# Altium footprint library GenericPCB.PcbLib: 13 footprints
Each footprint in its own frame and in the unit in brackets; x right, y up, seen from the top. Pads: shape width x height; smd on the part's side, far side on the other; paste and mask are expansions set on the pad; w line width, h text height; cw(c..) or ccw(c..) is an arc to the next point about the centre after c.
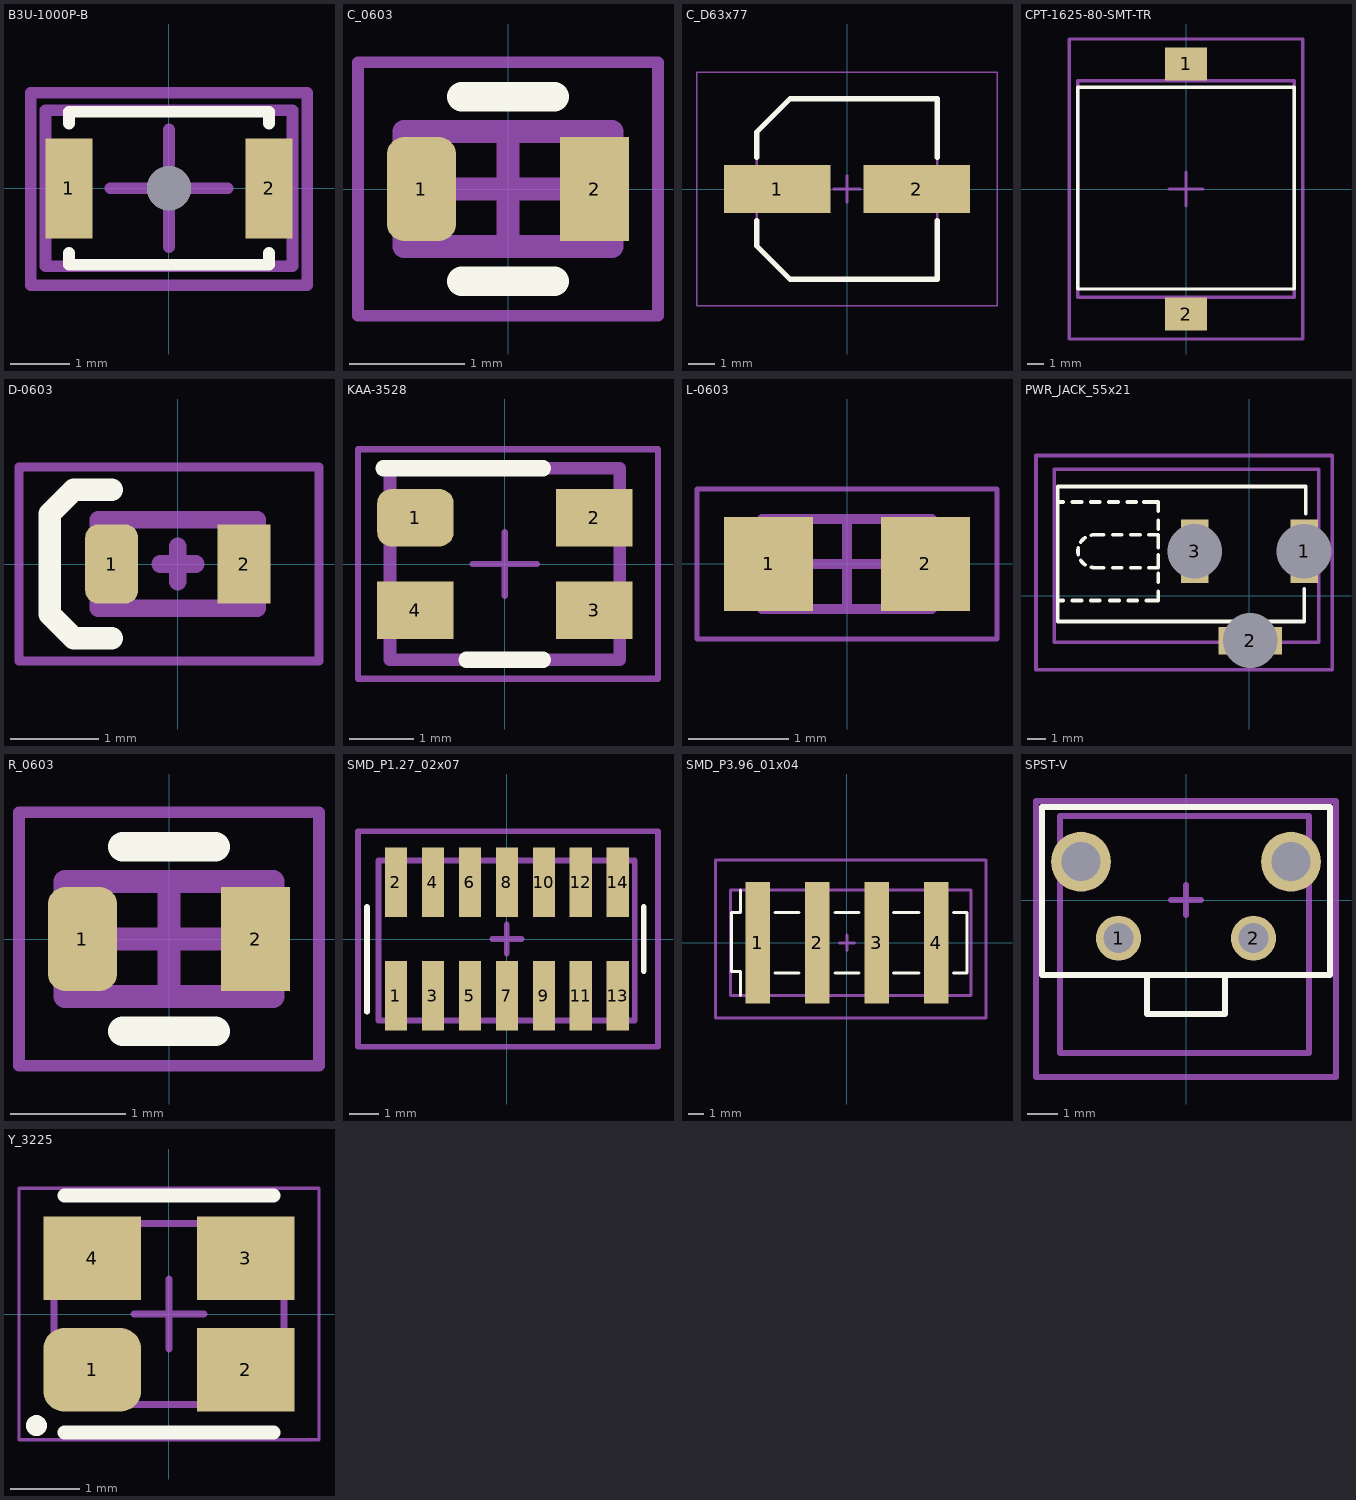
[diagram p0: the footprints below, top view; thin cyan lines are the x and y axes]

## B3U-1000P-B [mm] "tactile Switch"
pads (3):
  rect 0.8x1.7 smd: 1(-1.7,0) 2(1.7,0)
  round 0.75 hole 0.75: ""(0,0)
Top Overlay:
  lines w0.2: -1.7,-1.1 -1.7,-1.3 1.7,-1.3 1.7,-1.1 ; -1.7,1.1 -1.7,1.3 1.7,1.3 1.7,1.1
Mechanical 13:
  lines w0.2: -2.1,-1.325 2.1,-1.325 2.1,1.325 -2.1,1.325 -2.1,-1.325
Mechanical 15:
  lines w0.2: 0,-1 0,1 0,0 ; 0,0 -1,0 1,0 0,0 ; 2.35,1.625 -2.35,1.625 -2.35,-1.65 2.35,-1.65 2.35,1.625 ; 2.35,1.625 2.35,1.625
3D body "B3U1000P.step": height 1.6, standoff 0, extent -2,-1.25 2,1.25

## C_0603 [mm] "0603 package for CAP"
pads (2):
  rrect50% 0.6x0.9 smd: 1(-0.75,0)
  rect 0.6x0.9 smd: 2(0.75,0)
Top Overlay:
  lines w0.254: -0.4,-0.8 0.4,-0.8 ; -0.4,0.8 0.4,0.8
Mechanical 15:
  lines w0.1: -1.3,-1.1 1.3,-1.1 1.3,1.1 -1.3,1.1 -1.3,0.05 -1.3,-0.05 -1.3,-1.1
  lines w0.2: 0,-0.5 0,0.5 0,0 ; 0,0 -0.5,0 0.5,0 0,0
Mechanical 13 (Mech13):
  lines w0.2: -0.9,-0.5 0.9,-0.5 0.9,0.5 -0.9,0.5 -0.9,-0.5
3D body "C_0603.step": height 0.5, standoff 0, extent -0.8,-0.4 0.8,0.4

## C_D63x77 [mm] "Pol cap Dia 6.3mm height 7.7mm"
height 7.7
pads (2):
  rect 4x1.8 smd: 1(-2.625,0) 2(2.625,0)
Top Overlay:
  lines w0.2: -3.4,-1.2 -3.4,-2.15 -2.15,-3.4 3.4,-3.4 3.4,-1.2 ; -3.4,1.2 -3.4,2.15 -2.15,3.4 3.4,3.4 3.4,1.2
Mechanical 13 (Mech13):
  lines w0.1: -3.4,-2.15 -3.4,2.15 -2.15,3.4 3.4,3.4 3.4,-3.4 -2.15,-3.4 -3.4,-2.15
Mechanical 15 (Mech15):
  lines w0.05: -5.65,-4.4 5.65,-4.4 5.65,4.4 -5.65,4.4 -5.65,-4.4
  lines w0.1: -0.5,0 0.5,0 ; 0,-0.5 0,0.5
3D body "C_D63x77.step": height 8, standoff 0, extent -3.875,-3.4 3.875,3.4

## CPT-1625-80-SMT-TR [mm] "Buzzer"
height 2.5
pads (2):
  rect 2.5x2 smd: 1(0,7.5) 2(0,-7.5)
Top Overlay:
  lines w0.2: -6.5,-6 -5,-6 6.5,-6 6.5,6.1 -6.5,6.1 -6.5,-6
Mechanical 13:
  lines w0.2: -6.5,-6.5 -5.5,-6.5 6.5,-6.5 6.5,6.5 -6.5,6.5 -6.5,-6.5
Mechanical 15:
  lines w0.2: 0,-1 0,1 0,0 ; 0,0 1,0 -1,0 0,0 ; -7,-9 -7,9 7,9 7,-9 -7,-9
3D body "CPT-1625-80-SMT-TR.step": height 2.5, standoff 0, extent -6.5,-8.4 6.5,8.4

## D-0603 [mm] "0603 package for LED"
pads (2):
  rrect50% 0.6x0.9 smd: 1(-0.75,0)
  rect 0.6x0.9 smd: 2(0.75,0)
Top Overlay:
  lines w0.254: -1.45,-0.57 -1.18,-0.84 -0.75,-0.84 ; -1.45,-0.54 -1.45,0.54 ; -1.45,0.57 -1.18,0.84 -0.75,0.84
Mechanical 15:
  lines w0.1: -1.8,-1.1 -1.8,1.1 1.6,1.1 1.6,-1.1 -1.8,-1.1
  lines w0.2: -0.2,0 0.2,0 0,0 ; 0,0 0,-0.2 0,0.2 0,0
Mechanical 13 (Mech13):
  lines w0.2: -0.9,-0.5 0.9,-0.5 0.9,0.5 -0.9,0.5 -0.9,-0.5
3D body "LED SMD0603.step": height 0.68, standoff 0, extent -0.825,-0.36 0.825,0.365

## KAA-3528 [mm] "4-Pin LED 35mm x 28mm"
pads (4):
  rrect50% 1.2x0.9 smd: 1(-1.4,0.725)
  rect 1.2x0.9 smd: 2(1.4,0.725) 3(1.4,-0.725) 4(-1.4,-0.725)
Top Overlay:
  lines w0.254: -1.9,1.5 0.6,1.5 ; -0.6,-1.5 0.6,-1.5
Mechanical 13:
  lines w0.2: -1.8,-1.5 -1.8,1.5 1.313,1.5 1.8,1.5 1.8,-1.5 -1.8,-1.5
Mechanical 15:
  lines w0.1: -0.501,0 -0.001,-0.001 ; -0.001,-0.5 0,0 ; 0,0.5 -0.001,0 0.499,-0.001 ; -2.3,-1.8 2.4,-1.8 2.4,1.8 -2.3,1.8 -2.3,-1.8
3D body "KAA-3528.step": height 1.9, standoff 0, extent -1.75,-1.4 1.75,1.4

## L-0603 [mm] "Chip Inductor, 2-Leads, Body 1.60x0.80mm, IPC Medium Density"
height 0.95
pads (2):
  rect 0.89x0.94 smd: 1(-0.785,0) 2(0.785,0)
Mechanical 13 (Mech13):
  lines w0.1: -0.85,-0.45 0.85,-0.45 0.85,0.45 -0.85,0.45 -0.85,-0.45
Mechanical 15 (Mech15):
  lines w0.05: -1.5,-0.75 1.5,-0.75 1.5,0.75 -1.5,0.75 -1.5,-0.75
  lines w0.1: -0.45,0 0.45,0 ; 0,-0.45 0,0.45
3D body "L-0603.step": height 0.95, standoff 0, extent -0.85,-0.45 0.85,0.45

## PWR_JACK_55x21 [mm] "PCB Mount DC Power Jacks"
height 11
pads (3):
  rect 1.5x3.5 hole 3 square: 1(3,2.45) 3(-3,2.45)
  rect 3.5x1.5 hole 3 square: 2(0.05,-2.45)
Top Overlay:
  lines w0.2: -10.5,-0.6 -10.5,4.95 -10.5,6 3.1,6 3.1,4.5 ; -10.5,5.15 -10.2,5.15 ; -10.2,-0.25 -10.5,-0.25 -10.5,-1.4 3,-1.4 3,0.4 ; -9.7,-0.25 -9.2,-0.25 ; -9.7,5.15 -9.2,5.15 ; -9.383,2.274 cw(c-8.5,2.45) -9.383,2.626 ; -9.248,1.95 ccw(c-8.5,2.45) -9,1.702 ; -9.248,2.95 cw(c-8.5,2.45) -9,3.198 ; -8.7,-0.25 -8.2,-0.25 ; -8.7,5.15 -8.2,5.15 ; -8.676,1.567 ccw(c-8.5,2.45) -8.5,1.55 -8,1.55 ; -8.676,3.333 cw(c-8.5,2.45) -8.5,3.35 -8,3.35 ; -7.7,5.15 -7.2,5.15 ; -7.65,-0.25 -7.15,-0.25 ; -7.5,1.55 -7,1.55 ; -7.5,3.35 -7,3.35 ; -6.7,5.15 -6.2,5.15 ; -6.65,-0.25 -6.15,-0.25 ; -6.5,1.55 -6,1.55 ; -6.5,3.35 -6,3.35 ; -5.8,5.15 -5,5.15 -5,4.65 ; -5.65,-0.25 -5,-0.25 -5,0.25 ; -5.5,1.55 -5,1.55 -5,2.25 ; -5.5,3.35 -5,3.35 -5,2.65 ; -5,0.75 -5,1.25 ; -5,3.65 -5,4.15
Mechanical 13:
  lines w0.2: -10.7,-2.55 -10.7,6.95 3.8,6.95 3.8,-2.55 -10.7,-2.55
Mechanical 15:
  lines w0.2: -11.7,-4.05 -11.7,7.7 4.55,7.7 4.55,-4.05 -11.7,-4.05
3D body "PJ-002AH.STEP": height 11.05, standoff -3.45, extent -10.65,-2.45 3.75,6.95

## R_0603 [mm] "0603 package for RES"
pads (2):
  rrect50% 0.6x0.9 smd: 1(-0.75,0)
  rect 0.6x0.9 smd: 2(0.75,0)
Top Overlay:
  lines w0.254: -0.4,-0.8 0.4,-0.8 ; -0.4,0.8 0.4,0.8
Mechanical 13:
  lines w0.2: -0.9,-0.5 -0.9,0.5 0.9,0.5 0.9,-0.5 -0.9,-0.5
Mechanical 15:
  lines w0.1: -1.3,-1.1 1.3,-1.1 1.3,1.1 -1.3,1.1 -1.3,0.05 -1.3,-0.05 -1.3,-1.1
  lines w0.2: 0,-0.5 0,0.5 0,0 ; 0,0 0.5,0 -0.5,0 0,0
3D body "R_0603.step": height 0.45, standoff 0, extent -0.8,-0.4 0.8,0.4

## SMD_P1.27_02x07 [mm]
pads (14):
  rect 0.76x2.4 smd: 1(-3.81,-1.95) 2(-3.81,1.95) 3(-2.54,-1.95) 4(-2.54,1.95) 5(-1.27,-1.95) 6(-1.27,1.95) 7(0,-1.95) 8(0,1.95) 9(1.27,-1.95) 10(1.27,1.95) 11(2.54,-1.95) 12(2.54,1.95) 13(3.81,-1.95) 14(3.81,1.95)
Top Overlay:
  lines w0.2: -4.8,-2.5 -4.8,1.1 ; 4.7,-1.1 4.7,1.1
Mechanical 15:
  lines w0.2: 0,-0.5 0,0.5 0,0 ; 0,0 -0.5,0 0.5,0 0,0
Mechanical 13 (Mech13):
  lines w0.2: -4.41,-2.8 -4.41,2.7 4.39,2.7 4.39,-2.8 -4.41,-2.8
Mechanical 15 (Mech15):
  lines w0.2: -5.11,-3.7 -5.11,3.7 5.19,3.7 5.19,-3.7 -5.11,-3.7
3D body "P127_2pin_Header.step": height 4.5, standoff 0, extent -4.405,-2.75 -3.135,2.75
3D body "P127_2pin_Header.step": height 4.5, standoff 0, extent -3.155,-2.75 -1.885,2.75
3D body "P127_2pin_Header.step": height 4.5, standoff 0, extent -1.905,-2.75 -0.635,2.75
3D body "P127_2pin_Header.step": height 4.5, standoff 0, extent -0.655,-2.75 0.615,2.75
3D body "P127_2pin_Header.step": height 4.5, standoff 0, extent 0.615,-2.75 1.885,2.75
3D body "P127_2pin_Header.step": height 4.5, standoff 0, extent 1.865,-2.75 3.135,2.75
3D body "P127_2pin_Header.step": height 4.5, standoff 0, extent 3.115,-2.75 4.385,2.75

## SMD_P3.96_01x04 [mm]
pads (4):
  rect 1.64x8.11 smd: 1(-5.94,0) 2(-1.98,0) 3(1.98,0) 4(5.94,0)
Top Overlay:
  lines w0.2: -7.1,-3.5 -7.1,-1.9 -7.7,-1.9 -7.7,2 -7.1,2 -7.1,3.5 ; -4.8,-2 -3.2,-2 ; -4.8,2 -3.2,2 ; -0.8,-2 0.8,-2 ; -0.8,2 0.8,2 ; 3.1,-2 4.8,-2 ; 3.1,2 4.8,2 ; 7.1,-2 8,-2 8,2 7.1,2
Mechanical 15:
  lines w0.2: 0,-0.5 0,0.5 0,0 ; 0,0 -0.5,0 0.5,0 0,0
Mechanical 13 (Mech13):
  lines w0.2: -7.75,-3.5 -7.75,3.5 8.25,3.5 8.25,-3.5 -7.75,-3.5
Mechanical 15 (Mech15):
  lines w0.2: -8.75,-5 -8.75,5.5 9.25,5.5 9.25,-5 -8.75,-5
3D body "FHP-04-02-T-S-LC.stp": height 9.34, standoff -1.07, extent -7.675,-3.556 8.175,3.556

## SPST-V [mm] "Vertical switch"
pads (4):
  round 1.5 hole 1: 1(-2.25,-1.275) 2(2.25,-1.275)
  round 2 hole 1.3: ""(-3.5,1.275) ""(3.5,1.275)
Top Overlay:
  lines w0.2: -1.3,-2.5 -1.3,-3.8 1.3,-3.8 1.3,-2.5 ; -4.8,-2.5 -4.8,3.1 4.8,3.1 4.8,-2.5 -4.8,-2.5
Mechanical 13:
  lines w0.2: -4.2,-5.1 -4.2,2.8 4.1,2.8 4.1,-5.1 -4.2,-5.1
Mechanical 15:
  lines w0.2: 0,-0.5 0,0.5 0,0 ; 0,0 -0.5,0 0,0 ; 0,0 0.5,0 0,0 ; -5,-5.9 -5,3.3 5,3.3 5,-5.9 -5,-5.9
3D body "pts645-v-l-39.step": height 7.1, standoff -3.5, extent -4.123,-5.039 4.049,2.757

## Y_3225 [mm] "Crystal, 4-Leads, Body 2.50x3.20mm, Pitch 2.20mm, IPC Low Density"
height 0.7
pads (4):
  rrect50% 1.4x1.2 smd: 1(-1.1,-0.8)
  rect 1.4x1.2 smd: 2(1.1,-0.8) 3(1.1,0.8) 4(-1.1,0.8)
Top Overlay:
  circle w0.2: c-1.9,-1.6 r0.05
  lines w0.2: -1.5,-1.7 1.5,-1.7 ; -1.5,1.7 1.5,1.7
Mechanical 13 (Mech13):
  lines w0.1: -1.65,-1.3 1.65,-1.3 1.65,1.3 -1.65,1.3 -1.65,-1.3
Mechanical 15 (Mech15):
  lines w0.05: -2.15,-1.8 2.15,-1.8 2.15,1.8 -2.15,1.8 -2.15,-1.8
  lines w0.1: -0.5,0 0.5,0 ; 0,-0.5 0,0.5
3D body "Y_3225.step": height 0.61, standoff 0, extent -1.602,-1.253 1.598,1.247